# Altium footprint library small rf-transformer.PcbLib: 1 footprints
Each footprint in its own frame and in the unit in brackets; x right, y up, seen from the top. Pads: shape width x height; smd on the part's side, far side on the other; paste and mask are expansions set on the pad; w line width, h text height; cw(c..) or ccw(c..) is an arc to the next point about the centre after c.
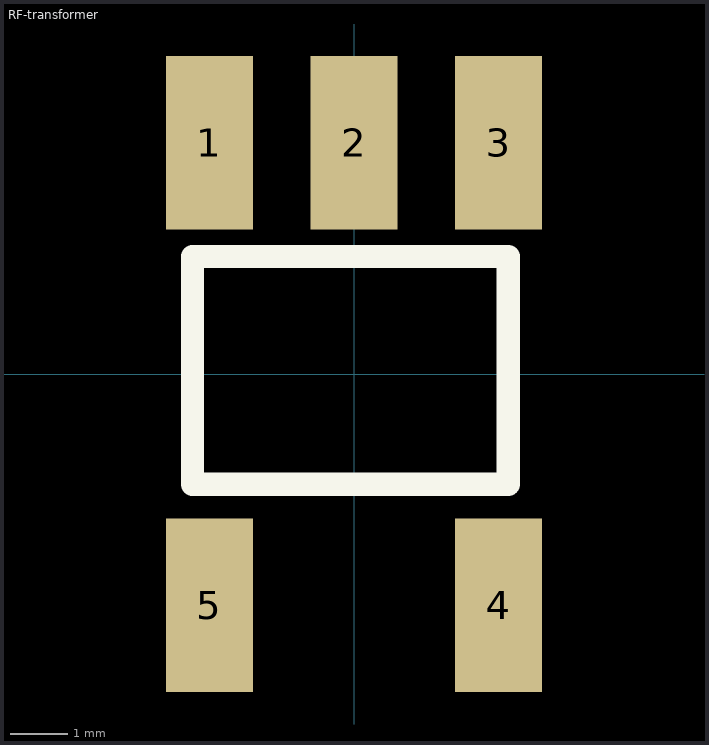
[diagram p0: the footprint, top view; thin cyan lines are the x and y axes]

## RF-transformer [mm] "RF-transformer SMD"
pads (5):
  rect 1.5x3 smd: 1(-2.5,4) 2(0,4) 3(2.5,4) 4(2.5,-4) 5(-2.5,-4)
Top Overlay:
  lines w0.4: -2.794,-1.905 -2.794,2.032 2.667,2.032 2.667,-1.905 -2.794,-1.905